# EAGLE library part LT3971 (library everykey)
Linear Technology 1.2A low Iq buck regulator
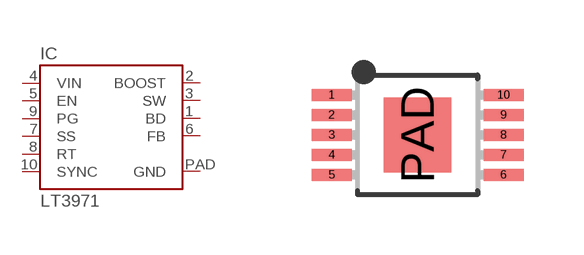
[diagram p77: symbol with the pads of MSOP-10-0.5-EP; footprint MSOP-10-0.5-EP]

Designator prefix IC

## LT3971-MSE10  [MSOP-10-0.5-EP]
1  BD  in
2  BOOST  in
3  SW  out
4  VIN  pwr
5  EN  in
6  FB  in
7  SS  in
8  RT  in
9  PG  out
10  SYNC  in
PAD  GND  pwr

## Footprint MSOP-10-0.5-EP (pad centres in mm)
10-pin MSOP package, 0.5mm pitch, exposed pad
smd 1 x 0.3: 1 -2.15,1; 2 -2.15,0.5; 3 -2.15,0; 4 -2.15,-0.5; 5 -2.15,-1; 6 2.15,-1; 7 2.15,-0.5; 8 2.15,0; 9 2.15,0.5; 10 2.15,1
smd 1.68 x 1.88: PAD 0,0